# Altium footprint library TestKitPcbLib.PcbLib: 6 footprints
Each footprint in its own frame and in the unit in brackets; x right, y up, seen from the top. Pads: shape width x height; smd on the part's side, far side on the other; paste and mask are expansions set on the pad; w line width, h text height; cw(c..) or ccw(c..) is an arc to the next point about the centre after c.
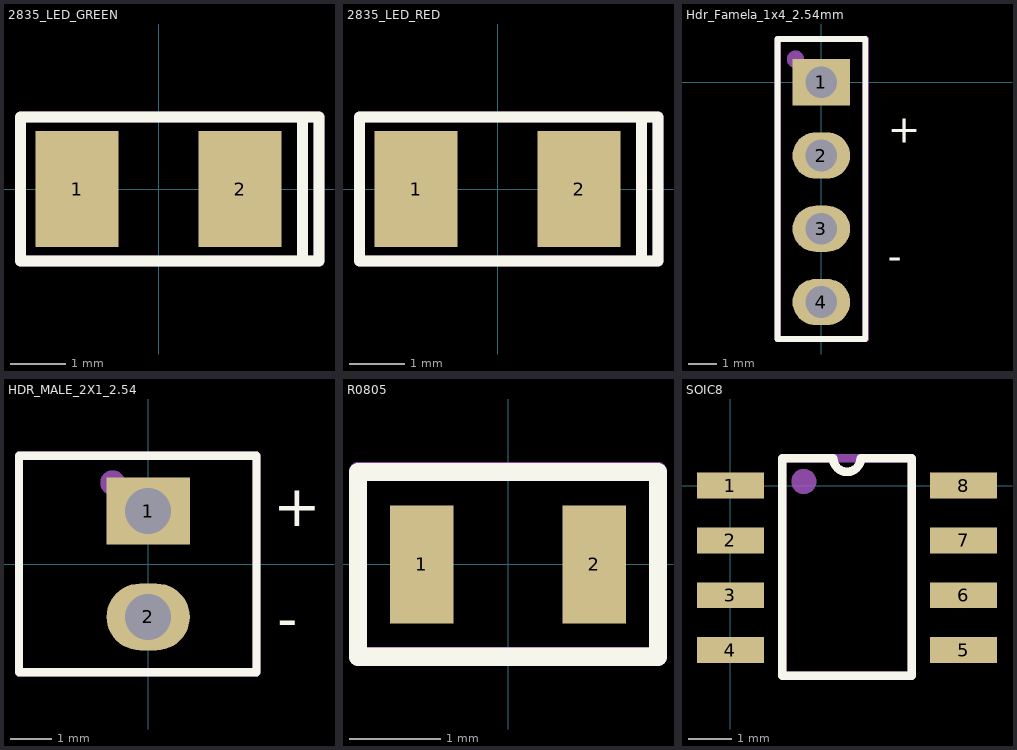
[diagram p0: the footprints below, top view; thin cyan lines are the x and y axes]

## 2835_LED_GREEN [mm]
pads (2):
  rect 1.5x2.1 smd: 1(-1.475,0) 2(1.475,0)
Top Overlay:
  lines w0.2: 2.6,-1.3 2.6,1.3 ; -2.5,-1.3 -2.5,1.3 2.5,1.3 2.9,1.3 2.9,-1.3 2.5,-1.3 -2.5,-1.3
Mechanical 29:
  lines w0.2: 2.3,1.3 2.9,1.3 ; 2.5,1.3 -2.5,1.3 -2.5,-1.3 2.5,-1.3 2.9,-1.3 ; 2.6,-1.3 2.6,1.3 ; 2.9,-1.3 2.9,1.3 ; 2.9,-1.3 2.9,1.3
  text ".Designator" at -1.6,-0.2 h0.5
3D body "LED 2835.step": height 0.74, standoff 0.01, extent -1.731,-1.4 1.781,1.4
3D body: height 0.9, standoff 0.2, extent -1.65,-1.425 1.7,1.4

## 2835_LED_RED [mm]
pads (2):
  rect 1.5x2.1 smd: 1(-1.475,0) 2(1.475,0)
Top Overlay:
  lines w0.2: 2.6,-1.3 2.6,1.3 ; -2.5,-1.3 2.5,-1.3 2.9,-1.3 2.9,1.3 2.5,1.3 -2.5,1.3 -2.5,-1.3
Mechanical 29:
  lines w0.2: 2.3,1.3 2.9,1.3 ; 2.5,1.3 -2.5,1.3 -2.5,-1.3 2.5,-1.3 2.9,-1.3 ; 2.6,-1.3 2.6,1.3 ; 2.9,-1.3 2.9,1.3 ; 2.9,-1.3 2.9,1.3
  text ".Designator" at -1.6,-0.2 h0.5
3D body: height 0.9, standoff 0.2, extent -1.65,-1.425 1.7,1.4
3D body "LED 2835.step": height 0.74, standoff 0.01, extent -1.731,-1.4 1.781,1.4

## Hdr_Famela_1x4_2.54mm [mm]
pads (4):
  rect 2x1.6 hole 1.1: 1(0,0)
  oval 2x1.6 hole 1.1: 2(0,-2.54) 3(0,-5.08) 4(0,-7.62)
Top Overlay:
  lines w0.2: -1.524,-8.9 1.524,-8.9 1.524,1.5 -1.524,1.5 -1.524,-8.9
  text "-" at 2.3,-6.5 h1
  text "+" at 2.3,-2.1 h1
Mechanical 1:
  lines w0.2: -1.524,-8.9 -1.524,1.5 1.524,1.5 1.524,-8.9 -1.524,-8.9
Mechanical 29:
  circle w0.4: c-0.9,0.8 r0.1
  lines w0.2: -1.5,-8.9 -1.5,1.5 1.548,1.5 1.548,-8.9 -1.5,-8.9
  text ".Designator" at 0.6,-7.6 h1.2
3D body "m20-7820446_asm.stp": height 8.51, standoff -2.99, extent -1.2,-8.98 1.3,1.58

## HDR_MALE_2X1_2.54 [mm]
pads (2):
  rect 2x1.6 hole 1.1: 1(0,1.27)
  oval 2x1.6 hole 1.1: 2(0,-1.27)
Top Overlay:
  lines w0.2: -3.1,-2.6 2.6,-2.6 2.6,2.6 -3.1,2.6 -3.1,-2.6
  text "-" at 3.1,-1.8 h1
  text "+" at 3,0.9 h1
Mechanical 1:
  lines w0.2: -3.1,-2.6 -3.1,2.6 2.6,2.6 2.6,-2.6 -3.1,-2.6
Mechanical 29:
  circle w0.4: c-0.85,1.95 r0.1
  lines w0.2: -3.1,-2.6 2.6,-2.6 2.6,2.6 -3.1,2.6 -3.1,-2.6
  text ".Designator" at -2.7,-0.5 h1.2
3D body "2PinMaleHdr.step": height 10.03, standoff -3.56, extent -3.175,-2.54 2.667,2.54

## R0805 [mm]
pads (2):
  rect 0.7x1.3 smd: 1(-0.95,0) 2(0.95,0)
Top Overlay:
  lines w0.2: -1.651,-1.016 -1.651,1.016 1.651,1.016 1.651,-1.016 -1.651,-1.016
Mechanical 1:
  lines w0.2: -1.651,-1.016 -1.651,1.016 1.651,1.016 1.651,-1.016 -1.651,-1.016
Mechanical 29:
  lines w0.2: -1.652,-1.007 1.65,-1.007 1.65,1.025 -1.652,1.025 -1.652,-1.007
  text ".Designator" at -1.27,-0.254 h0.6
3D body "RESC2012X70N EIA 0805.step": height 0.71, standoff 0.01, extent -1,-0.6 1,0.6

## SOIC8 [mm]
pads (8):
  rect 1.55x0.6 smd: 1(0,0) 2(0,-1.27) 3(0,-2.54) 4(0,-3.81) 5(5.4,-3.81) 6(5.4,-2.54) 7(5.4,-1.27) 8(5.4,0)
Top Overlay:
  lines w0.2: 1.2,-4.405 1.2,0.635 2.382,0.635 ccw(c2.7,0.635) 3.017,0.635 4.2,0.635 4.2,-4.405 1.2,-4.405
Mechanical 29:
  circle w0.3: c1.7,0.095 r0.141
  lines w0.2: 1.2,-4.405 4.2,-4.405 4.2,0.635 3.017,0.635 2.382,0.635 1.2,0.635 1.2,-4.405
  text ".Designator" at 3.3,-3.805 h0.5
3D body "SOIC-8-1.step": height 1.75, standoff 0, extent -0.3,-4.355 5.7,0.545